# Altium footprint library Nano.PcbLib: 1 footprints
Each footprint in its own frame and in the unit in brackets; x right, y up, seen from the top. Pads: shape width x height; smd on the part's side, far side on the other; paste and mask are expansions set on the pad; w line width, h text height; cw(c..) or ccw(c..) is an arc to the next point about the centre after c.
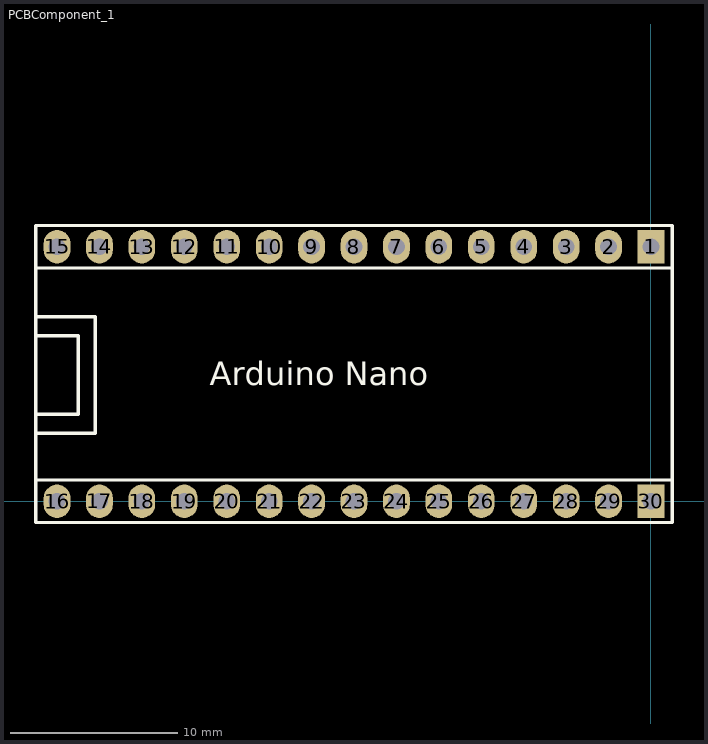
[diagram p0: the footprint, top view; thin cyan lines are the x and y axes]

## PCBComponent_1 [mm]
pads (30):
  rect 1.6x2 hole 1: 1(0,15.24) 30(0,0)
  oval 1.6x2 hole 1: 2(-2.54,15.24) 3(-5.08,15.24) 4(-7.62,15.24) 5(-10.16,15.24) 6(-12.7,15.24) 7(-15.24,15.24) 8(-17.78,15.24) 9(-20.32,15.24) 10(-22.86,15.24) 11(-25.4,15.24) 12(-27.94,15.24) 13(-30.48,15.24) 14(-33.02,15.24) 15(-35.56,15.24) 16(-35.56,0) 17(-33.02,0) 18(-30.48,0) 19(-27.94,0) 20(-25.4,0) 21(-22.86,0) 22(-20.32,0) 23(-17.78,0) 24(-15.24,0) 25(-12.7,0) 26(-10.16,0) 27(-7.62,0) 28(-5.08,0) 29(-2.54,0)
Top Overlay:
  lines w0.2: -36.83,1.27 1.27,1.27 ; -36.83,3.683 -36.83,3.81 ; -36.83,4.064 -33.274,4.064 -33.274,11.049 -36.83,11.049 ; -36.83,5.207 -34.29,5.207 -34.29,9.906 -36.83,9.906 ; -36.83,13.97 1.27,13.97 ; -36.83,-1.27 1.27,-1.27 1.27,16.51 -36.83,16.51 -36.83,-1.27
  text "Arduino Nano" at -26.416,6.934 h1.4